# EAGLE library part KRUBERG_IP4786CZ32 (library rgb_cube)
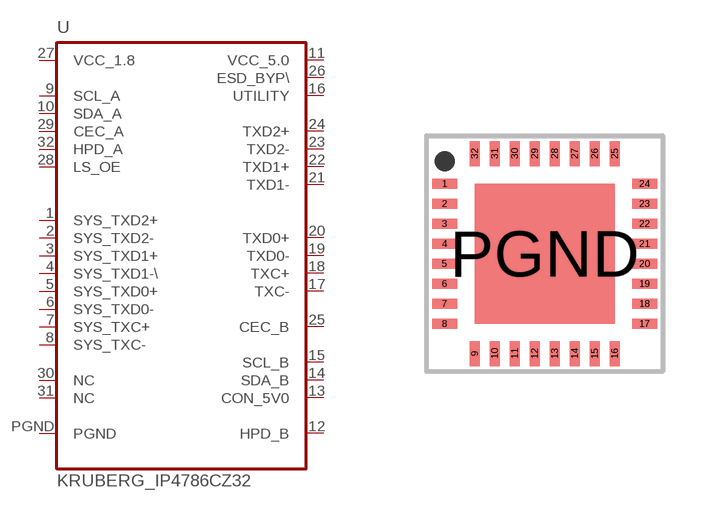
[diagram p64: symbol with the pads of KRUBERG_HVQFN32; footprint KRUBERG_HVQFN32]

Designator prefix -

## KRUBERG_IP4786CZ32  [KRUBERG_HVQFN32]
1  SYS_TXD2+
2  SYS_TXD2-
3  SYS_TXD1+
4  SYS_TXD1-\
5  SYS_TXD0+
6  SYS_TXD0-
7  SYS_TXC+
8  SYS_TXC-
9  SCL_A
10  SDA_A
11  VCC_5.0  pwr
12  HPD_B
13  CON_5V0  pwr
14  SDA_B
15  SCL_B
16  UTILITY  pwr
17  TXC-
18  TXC+
19  TXD0-
20  TXD0+
21  TXD1-
22  TXD1+
23  TXD2-
24  TXD2+
25  CEC_B
26  ESD_BYP\  pwr
27  VCC_1.8  pwr
28  LS_OE
29  CEC_A
30  NC
31  NC
32  HPD_A
PGND  PGND  pwr

## Footprint KRUBERG_HVQFN32 (pad centres in mm)
smd 0.625 x 0.25: 1 -2.5,1.75; 2 -2.5,1.25; 3 -2.5,0.75; 4 -2.5,0.25; 5 -2.5,-0.25; 6 -2.5,-0.75; 7 -2.5,-1.25; 8 -2.5,-1.75; 17 2.5,-1.75; 18 2.5,-1.25; 19 2.5,-0.75; 20 2.5,-0.25; 21 2.5,0.25; 22 2.5,0.75; 23 2.5,1.25; 24 2.5,1.75
smd 0.25 x 0.625: 9 -1.75,-2.5; 10 -1.25,-2.5; 11 -0.75,-2.5; 12 -0.25,-2.5; 13 0.25,-2.5; 14 0.75,-2.5; 15 1.25,-2.5; 16 1.75,-2.5; 25 1.75,2.5; 26 1.25,2.5; 27 0.75,2.5; 28 0.25,2.5; 29 -0.25,2.5; 30 -0.75,2.5; 31 -1.25,2.5; 32 -1.75,2.5
smd 3.5 x 3.5: PGND 0,0